# Altium footprint library CONN(USB2.0, MICRO-B, SMD, RA).PcbLib: 1 footprints
Each footprint in its own frame and in the unit in brackets; x right, y up, seen from the top. Pads: shape width x height; smd on the part's side, far side on the other; paste and mask are expansions set on the pad; w line width, h text height; cw(c..) or ccw(c..) is an arc to the next point about the centre after c.
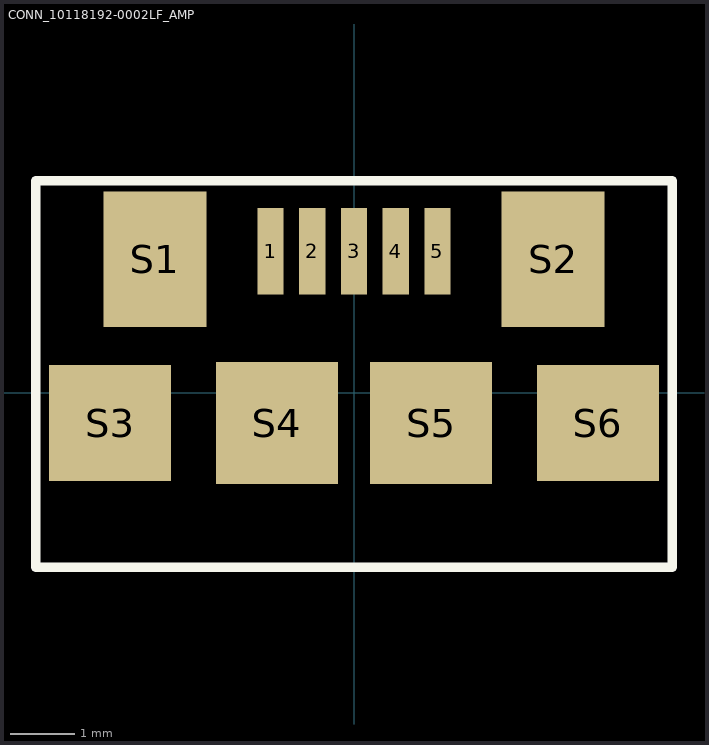
[diagram p0: the footprint, top view; thin cyan lines are the x and y axes]

## CONN_10118192-0002LF_AMP [mil]
pads (11):
  rect 16x53 smd paste+0 mask+0: 1(-51.18,86.77) 2(-25.59,86.77) 3(0,86.77) 4(25.59,86.77) 5(51.18,86.77)
  rect 63x83 smd paste+0 mask+0: S1(-122.05,81.85) S2(122.05,81.85)
  rect 75x71 smd paste+0 mask+0: S3(-149.61,-18.55) S6(149.61,-18.55)
  rect 75x75 smd paste+0 mask+0: S4(-47.24,-18.55) S5(47.24,-18.55)
Top Overlay:
  lines w6: -195.11,-107 -195.11,130 195.11,130 195.11,-107 -195.11,-107
3D body "10118192-002lfc.stp": height 108.46, standoff -0.4, extent -155.52,-103.66 155.99,97.13